# EAGLE library part LUXEON_REBEL (library led-lumiled)
LUXEON Rebel Display layer 93, Pins, and connect all contact points with a net. The thermal pads are defined in a separate gate with addlevel REQUEST. Draw a net named 'TH' and connect all thermal pads with it. Please read the Package's Description about DRC settings. Source: http://www.lumileds.com/pdfs/AB32.pdf
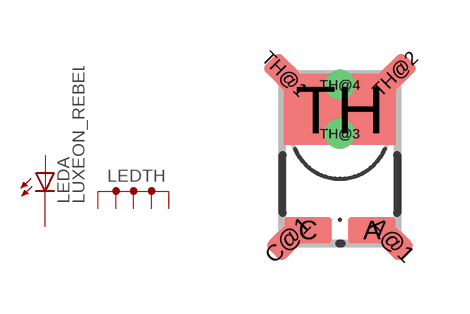
[diagram p0: symbol with the pads of LUXEON_REBEL; footprint LUXEON_REBEL]

Designator prefix LED; gates A=LED-A2C2 TH=LUXEON_THERMAL5

## LUXEON_REBEL  [LUXEON_REBEL]
A  A:A  pas
A@1  A:A  pas
C  A:C  pas
C@1  A:C  pas
TH  TH:TH  pwr
TH@1  TH:TH  pwr
TH@2  TH:TH  pwr
TH@3  TH:TH  pwr
TH@4  TH:TH  pwr

## Footprint LUXEON_REBEL (pad centres in mm)
LUXEON® Rebel LED Set DRC - Clearance - Same Signals to 0 to avoid DRC error message for Pad in SMD. Please read the Device's Description how to connect it correctly in the Schematic. Source: http://www.lumileds.com/pdfs/AB32.pdf http://www.lumileds.com/pdfs/DS56.pdf Footprint Rebel customer_070207.dxf
smd 1.2 x 0.67: A 0.8,-2.51; C -0.8,-2.51
smd 1 x 0.6 rotated 315: A@1 1.31,-2.75
smd 1 x 0.6 rotated 225: C@1 -1.31,-2.75
smd 2.8 x 1.77: TH 0,0.51
smd 1 x 0.6 rotated 135: TH@1 -1.39,1.39
smd 1 x 0.6 rotated 45: TH@2 1.39,1.39
drill 0.25 pad 0.4 round: TH@3 0,-0.095; TH@4 0,1.125